# Altium schematic symbol library LibLTC.SchLib: 2 symbols
Pins are listed as number, name and electrical type; pins without a type are passive.

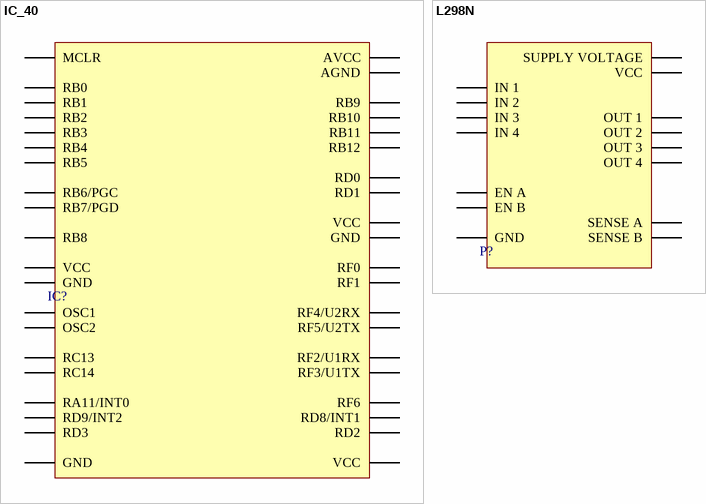
[diagram p0: symbols IC_40 to L298N]

## IC_40
designator IC?, comment dsPIC30F4013  (value not drawn)
pins: 1 MCLR, 2 RB0, 3 RB1, 4 RB2, 5 RB3, 6 RB4, 7 RB5, 8 RB6/PGC, 9 RB7/PGD, 10 RB8, 11 VCC, 12 GND, 13 OSC1, 14 OSC2, 15 RC13, 16 RC14, 17 RA11/INT0, 18 RD9/INT2, 19 RD3, 20 GND, 21 VCC, 22 RD2, 23 RD8/INT1, 24 RF6, 25 RF3/U1TX, 26 RF2/U1RX, 27 RF5/U2TX, 28 RF4/U2RX, 29 RF1, 30 RF0, 31 GND, 32 VCC, 33 RD1, 34 RD0, 35 RB12, 36 RB11, 37 RB10, 38 RB9, 39 AGND, 40 AVCC

## L298N
designator P?  (value not drawn)
pins: 1 SENSE A, 2 OUT 1, 3 OUT 2, 4 SUPPLY VOLTAGE, 5 IN 1, 6 EN A, 7 IN 2, 8 GND, 9 VCC, 10 IN 3, 11 EN B, 12 IN 4, 13 OUT 3, 14 OUT 4, 15 SENSE B